# EAGLE library part 62000711722 (library WR-WTB)
WR-WTB 2.00 mm Male Horizontal Shrouded Header Material Properties Insulator Material PA66 Insulator Flammability Rating UL94 V-0 Color Beige Contact Material Copper Alloy Contact Plating Tin Contact Type Stamped Certification UL Approval E323964 General Information Operating Temperature -25 °C up to +85 °C Compliance RoHS IR 2 A Working Voltage 125 V (AC) Withstanding Voltage 800 V (AC) Contact Resistance 20 mΩ RISO 1000 MΩ Pitch 2 mm Gender Male Type Horizontal Packaging Properties Packaging Bag <https://www.we-online.com/components/media/o33352v209%206200xx11722_Multi-Parts.jpg> Details see: www.we-online.com/en/components/products/WTB_2_00_MALE_HORIZONTAL_SHROUDED_HEADER_6200XX11722 <www.we-online.com/catalog/WTB_2_00_MALE_HORIZONTAL_SHROUDED_HEADER_6200XX11722/?utm_source=eagle_model&utm_medium=description_link&utm_campaign=eisos_eagle> Updated by Ella 2025-03-06 2025 (C) Würth Elektronik
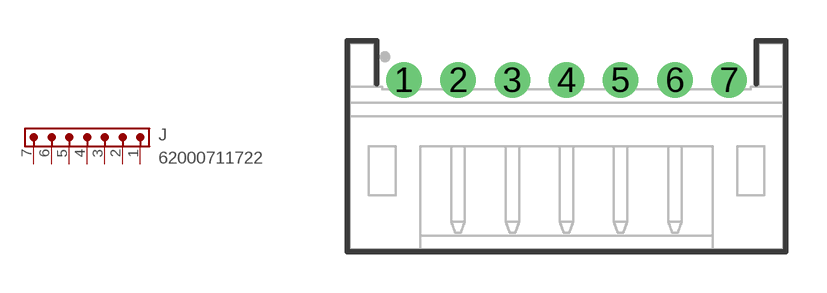
[diagram p34: symbol with the pads of 62000711722; footprint 62000711722]

Designator prefix J

## 62000711722 (CONTACT-RESISTANCE: 20mOhm; DATASHEET-URL: https://www.we-online.com/redexpert/spec/62000711722?ae; GENDER: Male; IR: 2A; L: 16mm; MOUNT: THT; PACKAGING: Bag; PART-NUMBER: 62000711722; PCB-CABLE-PANEL: PCB; PINS: 7; PITCH: 2mm; TYPE: Horizontal; VALUE: 62000711722; WORKING-VOLTAGE: 125V(AC))  [62000711722]
1  1  pas
2  2  pas
3  3  pas
4  4  pas
5  5  pas
6  6  pas
7  7  pas

## Footprint 62000711722 (pad centres in mm)
WR-WTB 2.00 mm Male Horizontal Shrouded Header,7 Pins
drill 0.8: 1 -6,2.45; 2 -4,2.45; 3 -2,2.45; 4 0,2.45; 5 2,2.45; 6 4,2.45; 7 6,2.45